# Altium footprint library PcbLib.PcbLib: 38 footprints (part 3 of 3)
Each footprint in its own frame and in the unit in brackets; x right, y up, seen from the top. Pads: shape width x height; smd on the part's side, far side on the other; paste and mask are expansions set on the pad; w line width, h text height; cw(c..) or ccw(c..) is an arc to the next point about the centre after c.
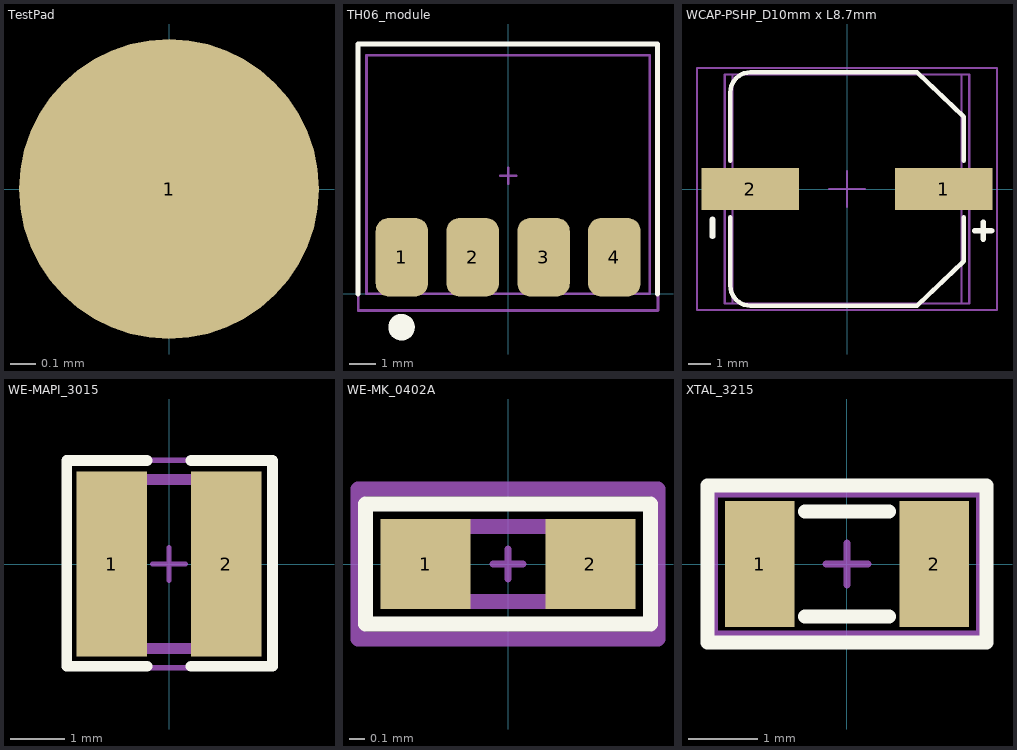
[diagram p2: the footprints below, top view; thin cyan lines are the x and y axes]

## TestPad [mm] "TestPad 1.2mm"
pads (1):
  round 1.2 smd paste-0.6: 1(0,0)
Mechanical 15:
  lines w0.1: -0.3,0 0.3,0 ; 0,-0.3 0,0.3

## TH06_module [mm] "TH06 Humidity and Temperature Module"
pads (4):
  rrect50% 2x3 smd: 1(-4.05,1.4) 2(-1.35,1.4) 3(1.35,1.4) 4(4.05,1.4)
Top Overlay:
  circle w0.5: c-4.064,-1.27 r0.256
  lines w0.2: -5.725,0 -5.725,9.525 5.7,9.525 5.7,0
Mechanical 11:
  lines w0.1: -5.4,0 -5.4,9.1 5.4,9.1 5.4,0 -5.4,0
Mechanical 15:
  lines w0.1: -0.3,4.5 0.3,4.5 ; 0,4.2 0,4.8 ; -5.715,-0.635 -5.715,9.525 5.715,9.525 5.715,-0.635 -5.715,-0.635
3D body: height 0.9, standoff 0, extent -5.461,-0.127 5.461,9.144
3D body: height 1.9, standoff 0.9, extent -1.27,4.445 1.27,6.985

## WCAP-PSHP_D10mm x L8.7mm [mm] "Aluminium Polymer V-Chip SMT Capacitors, D10mm x L8.7mm"
height 8.7
pads (2):
  rect 4.4x1.9 smd: 1(4.35,0) 2(-4.35,0)
Top Overlay:
  lines w0.2: -5.25,-1.27 -5.25,-4.35 ccw(c-4.35,-4.35) -4.35,-5.25 3.15,-5.25 5.25,-3.25 5.25,-1.28 ; -5.25,1.27 -5.25,4.35 cw(c-4.35,4.35) -4.35,5.25 3.15,5.25 5.25,3.25 5.25,1.28
  lines w0.254: -6.05,-2.125 -6.05,-1.375 ; 5.75,-1.875 6.5,-1.875 ; 6.125,-2.25 6.125,-1.5
Mechanical 11:
  lines w0.1: -5.15,-5.15 5.15,-5.15 5.15,5.15 -5.15,5.15 -5.15,-5.15
  text ".Designator" at 0,0 h1
Mechanical 13:
  lines w0.1: -5.5,-5.15 -5.5,5.15 5.5,5.15 5.5,-5.15 -5.5,-5.15
Mechanical 15:
  lines w0.1: -0.8,0 0.8,0 ; 0,-0.8 0,0.8 ; -6.75,-5.45 6.75,-5.45 6.75,5.45 -6.75,5.45 -6.75,-5.45
3D body "10x8.7x4.5.stp": height 8.7, standoff 0, extent -5.5,-5.15 5.5,5.15

## WE-MAPI_3015 [mm] "SMD Shielded Power Inductor, 2-Leads, body 3.0x3.0"
height 1.5
pads (2):
  rect 1.3x3.4 smd: 1(-1.05,0) 2(1.05,0)
Top Overlay:
  lines w0.2: -0.4,-1.875 -1.875,-1.875 -1.875,1.9 -0.4,1.9 ; 0.4,-1.875 1.9,-1.875 1.9,1.9 0.4,1.9
Mechanical 11:
  lines w0.1: -1.5,-1.5 1.5,-1.5 1.5,1.5 -1.5,1.5 -1.5,-1.5
Mechanical 13:
  lines w0.1: -1.6,-1.6 1.6,-1.6 1.6,1.6 -1.6,1.6 -1.6,-1.6
Mechanical 15:
  lines w0.1: -0.3,0 0.3,0 ; 0,-0.3 0,0.3 ; -1.9,-1.9 1.9,-1.9 1.9,1.9 -1.9,1.9 -1.9,-1.9
3D body "WE-IndMAPI_30xx.stp": height 1.52, standoff 0.02, extent -1.5,-1.5 1.5,1.5

## WE-MK_0402A [mm] "SMD Multilayer Ceramic Inductor, body 1.0x0.5mm"
height 0.5
pads (2):
  rect 0.6x0.6 smd: 1(-0.55,0) 2(0.55,0)
Top Overlay:
  lines w0.102: -0.95,-0.4 -0.95,0.4 0.95,0.4 0.95,-0.4 -0.95,-0.4
Mechanical 13:
  lines w0.102: -0.5,-0.25 -0.5,0.25 0.5,0.25 0.5,-0.25 -0.5,-0.25
Mechanical 15:
  lines w0.05: -0.1,0 0.1,0 ; 0,-0.1 0,0.1
  lines w0.1: -1,-0.5 -1,0.5 1,0.5 1,-0.5 -1,-0.5
3D body "STEP-WE-MK-0402A-rev1.stp": height 0.5, standoff 0, extent -0.5,-0.25 0.5,0.25

## XTAL_3215 [mm]
pads (2):
  rect 1x1.8 smd: 1(-1.25,0) 2(1.25,0)
Top Overlay:
  lines w0.2: -0.6,-0.75 0.6,-0.75 ; -0.6,0.75 0.6,0.75 ; -2,-1.125 2,-1.125 2,1.125 -2,1.125 -2,-1.125
Mechanical 15:
  lines w0.1: -0.3,0 0.3,0 ; 0,-0.3 0,0.3 ; -1.9,-1 -1.9,1 1.9,1 1.9,-1 -1.9,-1
3D body "User Library-Siward_SX3215.step": height 0.81, standoff 0, extent -1.6,-0.75 1.6,0.75
3D body: height 0.81, standoff 0.15, extent -1.2,-0.6 1.2,0.6